# Altium footprint library SM_L_Eth_XFMR_13F-39MNL.PcbLib: 1 footprints
Each footprint in its own frame and in the unit in brackets; x right, y up, seen from the top. Pads: shape width x height; smd on the part's side, far side on the other; paste and mask are expansions set on the pad; w line width, h text height; cw(c..) or ccw(c..) is an arc to the next point about the centre after c.
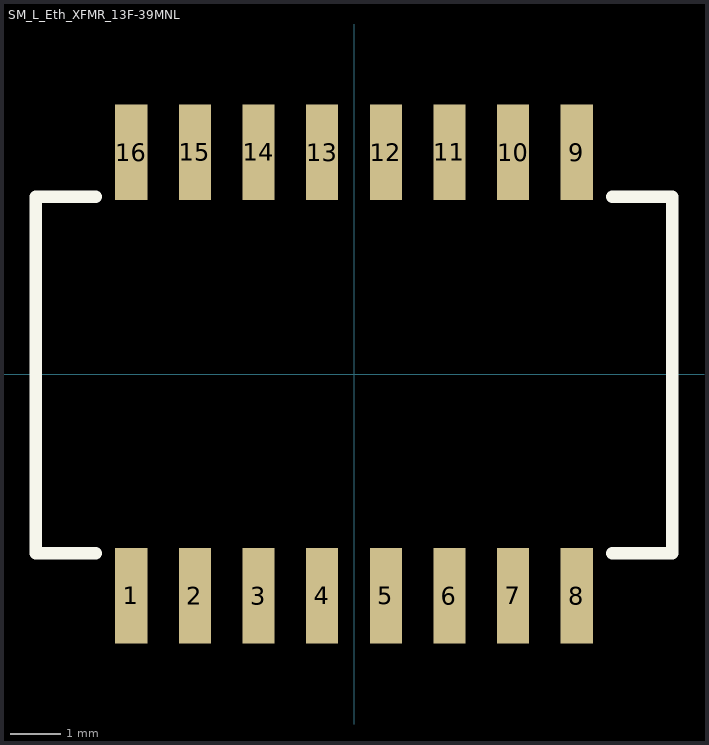
[diagram p0: the footprint, top view; thin cyan lines are the x and y axes]

## SM_L_Eth_XFMR_13F-39MNL [mm]
pads (16):
  rect 0.64x1.9 smd: 1(-4.445,-4.425) 2(-3.175,-4.425) 3(-1.905,-4.425) 4(-0.635,-4.425) 5(0.635,-4.425) 6(1.905,-4.425) 7(3.175,-4.425) 8(4.445,-4.425) 9(4.445,4.425) 10(3.175,4.425) 11(1.905,4.425) 12(0.635,4.425) 13(-0.635,4.425) 14(-1.905,4.425) 15(-3.175,4.425) 16(-4.445,4.425)
Top Overlay:
  lines w0.25: -5.152,-3.575 -6.35,-3.575 -6.35,3.537 -6.348,3.535 -5.15,3.535 ; 5.152,-3.575 6.35,-3.575 6.35,3.535 5.152,3.535
3D body "YDS 13F-39MNL.STEP": height 1.98, standoff -0.17, extent -6.35,-4.72 6.35,4.69